# EAGLE library part LFCG-1000+ (library SamacSys_Parts)
LTCC Low Pass Filter, DC - 1000 MHz, 50 Source: Datasheet <dlshin@tescomwireless.com>
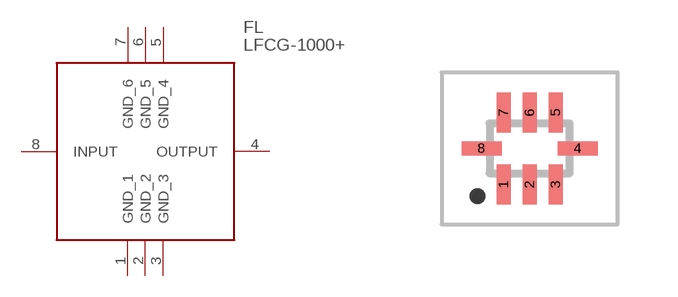
[diagram p2: symbol with the pads of LFCG1000; footprint LFCG1000]

Designator prefix FL

## LFCG-1000+ (DESCRIPTION: LTCC Low Pass Filter, DC - 1000 MHz, 50; HEIGHT: 0.95mm; MANUFACTURER_NAME: Mini-Circuits; MANUFACTURER_PART_NUMBER: LFCG-1000+; MOUSER_PART_NUMBER: 139-LFCG-1000; MOUSER_PRICE-STOCK: https://www.mouser.co.uk/ProductDetail/Mini-Circuits/LFCG-1000%2b?qs=xZ%2FP%252Ba9zWqa9%2FBD5JEjVhQ%3D%3D)  [LFCG1000]
1  GND_1
2  GND_2
3  GND_3
4  OUTPUT
5  GND_4
6  GND_5
7  GND_6
8  INPUT

## Footprint LFCG1000 (pad centres in mm)
LFCG-1000+-1
smd 0.35 x 1: 1 -0.65,-0.9; 2 0,-0.9; 3 0.65,-0.9; 5 0.65,0.9; 6 0,0.9; 7 -0.65,0.9
smd 1 x 0.35: 4 1.2,0; 8 -1.2,0